# EAGLE library part LP2989* (library 0-svo-lp2981)
Micropower/Low Noise, 500mA Ultra Low-Dropout Regulator for use with Ceramic Output Capacitors
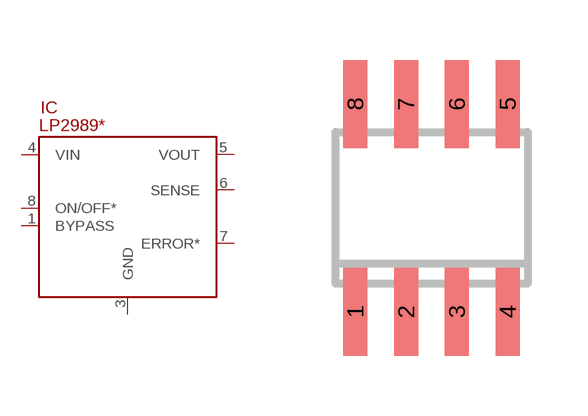
[diagram p0: symbol with the pads of SO-08; footprint SO-08]

Designator prefix IC

## LP2989-5.0AIM, LP29892.5AIM, LP29893.3AIM  [SO-08]
1  BYPASS  pas
3  GND  pas
4  VIN  pas
5  VOUT  pas
6  SENSE
7  ERROR*
8  ON/OFF*  pas

## Footprint SO-08 (pad centres in mm)
Small Outline Narrow Plastic Gull Wing 150-mil body, package type SN
smd 0.6 x 2.2: 1 -1.905,-2.6; 2 -0.635,-2.6; 3 0.635,-2.6; 4 1.905,-2.6; 5 1.905,2.6; 6 0.635,2.6; 7 -0.635,2.6; 8 -1.905,2.6